# Altium footprint library PXHK.PCBLIB: 44 footprints (part 1 of 3)
Each footprint in its own frame and in the unit in brackets; x right, y up, seen from the top. Pads: shape width x height; smd on the part's side, far side on the other; paste and mask are expansions set on the pad; w line width, h text height; cw(c..) or ccw(c..) is an arc to the next point about the centre after c.
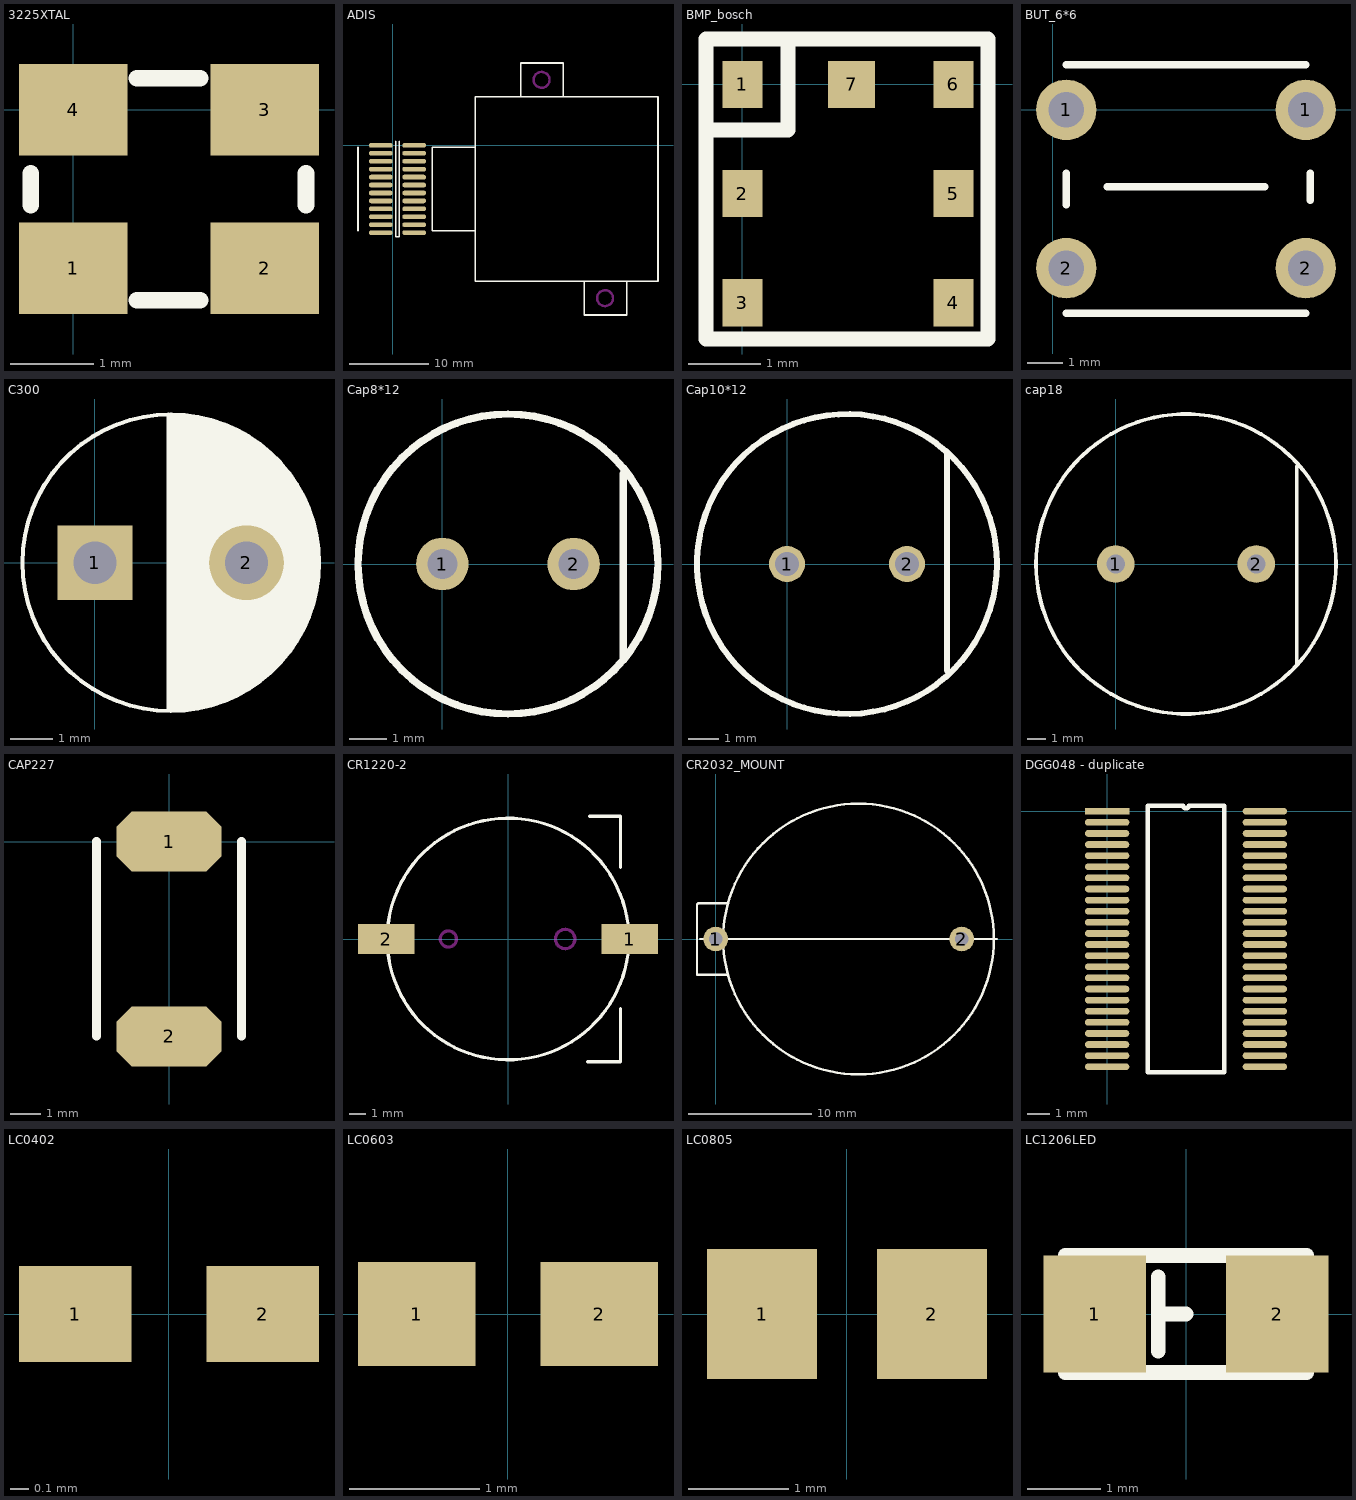
[diagram p0: the footprints below, top view; thin cyan lines are the x and y axes]

## 3225XTAL [mm]
height 0.9
pads (4):
  rect 1.3x1.1 smd: 1(0,-1.9) 2(2.3,-1.9) 3(2.3,0) 4(0,0)
Top Overlay:
  lines w0.2: -0.508,-1.143 -0.508,-0.762 ; 0.762,-2.286 1.524,-2.286 ; 0.762,0.381 1.524,0.381 ; 2.794,-1.143 2.794,-0.762

## ADIS [mm]
pads (24):
  oct 3x0.6 smd: 1(-1.5,-11)
  oval 3x0.6 smd: 2(2.7,-11) 3(-1.5,-10) 4(2.7,-10) 5(-1.5,-9) 6(2.7,-9) 7(-1.5,-8) 8(2.7,-8) 9(-1.5,-7) 10(2.7,-7) 11(-1.5,-6) 12(2.7,-6) 13(-1.5,-5) 14(2.7,-5) 15(-1.5,-4) 16(2.7,-4) 17(-1.5,-3) 18(2.7,-3) 19(-1.5,-2) 20(2.7,-2) 21(-1.5,-1) 22(2.7,-1) 23(-1.5,0) 24(2.7,0)
Top Overlay:
  lines w0.2: -4.375,-10.75 -4.375,-0.25 ; 0.365,0.5 0.365,-11.5 0.835,-11.5 0.835,0.5 ; 10.414,-10.75 5,-10.75 5,-0.25 10.414,-0.25 ; 16.125,6.125 16.125,10.375 21.5,10.375 21.5,6.125 ; 24.125,-17.125 24.125,-21.375 29.5,-21.375 29.5,-17.125 ; 10.414,-17.125 33.414,-17.125 33.414,6.125 10.414,6.125 10.414,-5.5 10.414,-17.125
Keep-Out Layer:
  circle w0.3: c18.75,8.25 r1
  circle w0.3: c26.75,-19.25 r1

## BMP_bosch [mm]
pads (7):
  rect 0.55x0.65 smd: 1(0,0) 2(0,-1.5) 3(0,-3) 4(2.9,-3) 5(2.9,-1.5) 6(2.9,0)
  rect 0.65x0.65 smd: 7(1.5,0)
Top Overlay:
  lines w0.21: -0.5,-0.625 0.625,-0.625 0.625,0.625 ; -0.5,-3.5 3.375,-3.5 3.375,0.625 -0.5,0.625 -0.5,-3.5

## BUT_6*6 [mm]
pads (4):
  round 1.7 hole 1: 1(0.381,0) 1(7.112,0) 2(0.381,-4.445) 2(7.112,-4.445)
Top Overlay:
  lines w0.2: 0.381,-5.715 7.112,-5.715 ; 0.381,-2.667 0.381,-1.778 ; 0.381,1.27 7.112,1.27 ; 1.524,-2.159 5.969,-2.159 ; 7.239,-2.54 7.239,-1.778

## C300 [mil]
pads (2):
  rect 70x70 hole 40: 1(0,0)
  round 70 hole 40: 2(141.73,0)
Top Overlay:
  circle w3.94: c70.87,0 r138.69
  lines w3.94: 68.8,-134.34 100.34,-134.34 ; 68.8,-130.4 115.09,-130.4 ; 68.8,-126.46 125.6,-126.46 ; 68.8,-122.53 134.09,-122.53 ; 68.8,-118.59 141.31,-118.59 ; 68.8,-114.65 147.64,-114.65 ; 68.8,-110.72 153.28,-110.72 ; 68.8,-106.78 158.37,-106.78 ; 68.8,-102.84 163,-102.84 ; 68.8,-98.9 167.24,-98.9 ; 68.8,-94.97 171.14,-94.97 ; 68.8,-91.03 174.74,-91.03 ; 68.8,-87.09 178.07,-87.09 ; 68.8,-83.16 181.16,-83.16 ; 68.8,-79.22 184.02,-79.22 ; 68.8,-75.28 186.67,-75.28 ; 68.8,-71.35 189.13,-71.35 ; 68.8,-67.41 191.41,-67.41 ; 68.8,-63.47 193.52,-63.47 ; 68.8,-59.53 195.46,-59.53 ; 68.8,-55.6 197.25,-55.6 ; 68.8,-51.66 198.9,-51.66 ; 68.8,-47.72 200.4,-47.72 ; 68.8,-43.79 201.76,-43.79 ; 68.8,-39.85 202.99,-39.85 ; 68.8,-35.91 204.09,-35.91 ; 68.8,-31.98 205.06,-31.98 ; 68.8,-28.04 205.91,-28.04 ; 68.8,-24.1 206.64,-24.1 ; 68.8,-20.16 207.25,-20.16 ; 68.8,-16.23 207.74,-16.23 ; 68.8,-12.29 208.12,-12.29 ; 68.8,-8.35 208.38,-8.35 ; 68.8,-4.42 208.52,-4.42 ; 68.8,-0.48 208.56,-0.48 ; 68.8,3.46 208.48,3.46 ; 68.8,7.39 208.29,7.39 ; 68.8,11.33 207.98,11.33 ; 68.8,15.27 207.57,15.27 ; 68.8,19.21 207.04,19.21 ; 68.8,23.14 206.4,23.14 ; 68.8,27.08 205.64,27.08 ; 68.8,31.02 204.76,31.02 ; 68.8,34.95 203.76,34.95 ; 68.8,38.89 202.64,38.89 ; 68.8,42.83 201.39,42.83 ; 68.8,46.76 200.02,46.76 ; 68.8,50.7 198.51,50.7 ; 68.8,54.64 196.86,54.64 ; 68.8,58.58 195.06,58.58 ; 68.8,62.51 193.12,62.51 ; 68.8,66.45 191.01,66.45 ; 68.8,70.39 188.75,70.39 ; 68.8,74.32 186.3,74.32 ; 68.8,78.26 183.67,78.26 ; 68.8,82.2 180.84,82.2 ; 68.8,86.13 177.79,86.13 ; 68.8,90.07 174.51,90.07 ; 68.8,94.01 170.98,94.01 ; 68.8,97.95 167.16,97.95 ; 68.8,101.88 163.02,101.88 ; 68.8,105.82 158.51,105.82 ; 68.8,109.76 153.59,109.76 ; 68.8,113.69 148.17,113.69 ; 68.8,117.63 142.13,117.63 ; 68.8,121.57 135.32,121.57 ; 68.8,125.5 127.47,125.5 ; 68.8,129.44 118.07,129.44 ; 68.8,133.38 105.98,133.38 ; 68.8,137.32 86.31,137.32 ; 71.66,-137.17 71.66,138.39 ; 75.59,-137.14 75.59,138.25 ; 79.53,-137 79.53,138 ; 83.47,-136.75 83.47,137.64 ; 87.4,-136.38 87.4,137.17 ; 91.34,-135.89 91.34,136.59 ; 95.28,-135.29 95.28,135.88 ; 99.21,-134.57 99.21,135.07 ; 103.15,-133.72 103.15,134.13 ; 107.09,-132.76 107.09,133.07 ; 111.03,-131.66 111.03,131.88 ; 114.96,-130.44 114.96,130.57 ; 118.9,-129.09 118.9,129.13 ; 122.84,-127.6 122.84,127.55 ; 126.77,-125.96 126.77,125.82 ; 130.71,-124.18 130.71,123.95 ; 134.65,-122.24 134.65,121.93 ; 138.58,-120.14 138.58,119.75 ; 142.52,-117.87 142.52,117.39 ; 146.46,-115.42 146.46,114.85 ; 150.4,-112.78 150.4,112.12 ; 154.33,-109.93 154.33,109.18 ; 158.27,-106.86 158.27,106.02 ; 162.21,-103.54 162.21,102.62 ; 166.14,-99.95 166.14,98.94 ; 170.08,-96.07 170.08,94.96 ; 174.02,-91.85 174.02,90.64 ; 177.95,-87.24 177.95,85.94 ; 181.89,-82.18 181.89,80.77 ; 185.83,-76.57 185.83,75.05 ; 189.77,-70.28 189.77,68.65 ; 193.7,-63.11 193.7,61.36 ; 197.64,-54.71 197.64,52.81 ; 201.58,-44.34 201.58,42.28 ; 205.51,-29.95 205.51,27.67 ; 68.8,-137.17 72.73,-137.17 ccw(c72.73,-1.35) 208.56,-1.35 ccw(c68.8,-1.35) 68.8,138.42 68.8,-137.17

## Cap8*12 [mm]
pads (2):
  round 1.4 hole 0.8: 1(0,0) 2(3.5,0)
Top Overlay:
  circle w0.2: c1.75,0 r4
  lines w0.2: 4.826,-2.54 4.826,2.413

## Cap10*12 [mm]
pads (2):
  round 1.2 hole 0.8: 1(0,0) 2(4,0)
Top Overlay:
  circle w0.2: c2,0 r5
  lines w0.2: 5.334,-3.556 5.334,3.683

## cap18 [mm]
pads (2):
  round 2 hole 1: 1(0,0) 2(7.5,0)
Top Overlay:
  circle w0.2: c3.75,0 r8
  lines w0.2: 9.652,-5.334 9.652,5.207

## CAP227 [mm]
pads (2):
  oct 3.5x2 smd: 1(0,0) 2(0,-6.5)
Top Overlay:
  lines w0.3: -2.413,-6.477 -2.413,0 ; 2.413,-6.477 2.413,0

## CR1220-2 [mm]
pads (2):
  rect 3.52x1.87 smd: 1(7.55,0) 2(-7.55,0)
Top Overlay:
  circle w0.2: c0,0 r7.5
  lines w0.2: 4.953,-7.62 6.985,-7.62 6.985,-4.318 ; 5.08,7.62 6.985,7.62 6.985,4.445
Keep-Out Layer:
  circle w0.2: c3.55,0 r0.6
  circle w0.2: c-3.7,0 r0.5

## CR2032_MOUNT [mm]
pads (2):
  round 2 hole 1.1: 1(0,0) 2(20,0)
Top Overlay:
  circle w0.2: c11.606,0 r11
  lines w0.2: -1.27,0 22.86,0 ; 0.889,-2.921 -1.524,-2.921 -1.524,2.794 -1.397,2.921 1.016,2.921

## DGG048 - duplicate [mm]
pads (48):
  rect 2x0.3 smd: 1(0,0)
  oval 2x0.3 smd: 2(0,-0.5) 3(0,-1) 4(0,-1.5) 5(0,-2) 6(0,-2.5) 7(0,-3) 8(0,-3.5) 9(0,-4) 10(0,-4.5) 11(0,-5) 12(0,-5.5) 13(0,-6) 14(0,-6.5) 15(0,-7) 16(0,-7.5) 17(0,-8) 18(0,-8.5) 19(0,-9) 20(0,-9.5) 21(0,-10) 22(0,-10.5) 23(0,-11) 24(0,-11.5) 25(7.1,-11.5) 26(7.1,-11) 27(7.1,-10.5) 28(7.1,-10) 29(7.1,-9.5) 30(7.1,-9) 31(7.1,-8.5) 32(7.1,-8) 33(7.1,-7.5) 34(7.1,-7) 35(7.1,-6.5) 36(7.1,-6) 37(7.1,-5.5) 38(7.1,-5) 39(7.1,-4.5) 40(7.1,-4) 41(7.1,-3.5) 42(7.1,-3) 43(7.1,-2.5) 44(7.1,-2) 45(7.1,-1.5) 46(7.1,-1) 47(7.1,-0.5) 48(7.1,0)
Top Overlay:
  lines w0.2: 1.835,-11.75 5.265,-11.75 5.265,0.25 3.675,0.25 cw(c3.55,0.25) 3.425,0.25 1.835,0.25 1.835,-11.75

## LC0402 [mm]
height 0.5
pads (2):
  rect 0.6x0.51 smd: 1(-0.5,0) 2(0.5,0)

## LC0603 [mm]
height 0.8
pads (2):
  rect 0.9x0.8 smd: 1(-0.7,0) 2(0.7,0)

## LC0805 [mm]
height 1
pads (2):
  rect 1.1x1.3 smd: 1(-0.85,0) 2(0.85,0)

## LC1206LED [mm]
pads (2):
  rect 1.4x1.6 smd: 1(-1.25,0) 2(1.25,0)
Top Overlay:
  lines w0.2: -1.65,-0.8 1.65,-0.8 ; -1.65,0.8 1.65,0.8 ; -0.381,-0.508 -0.381,0.508 ; -0.381,0 0,0